# Altium integrated library Microchip Power Management Line Regulator.IntLib: 1169 symbols (part 10 of 31)
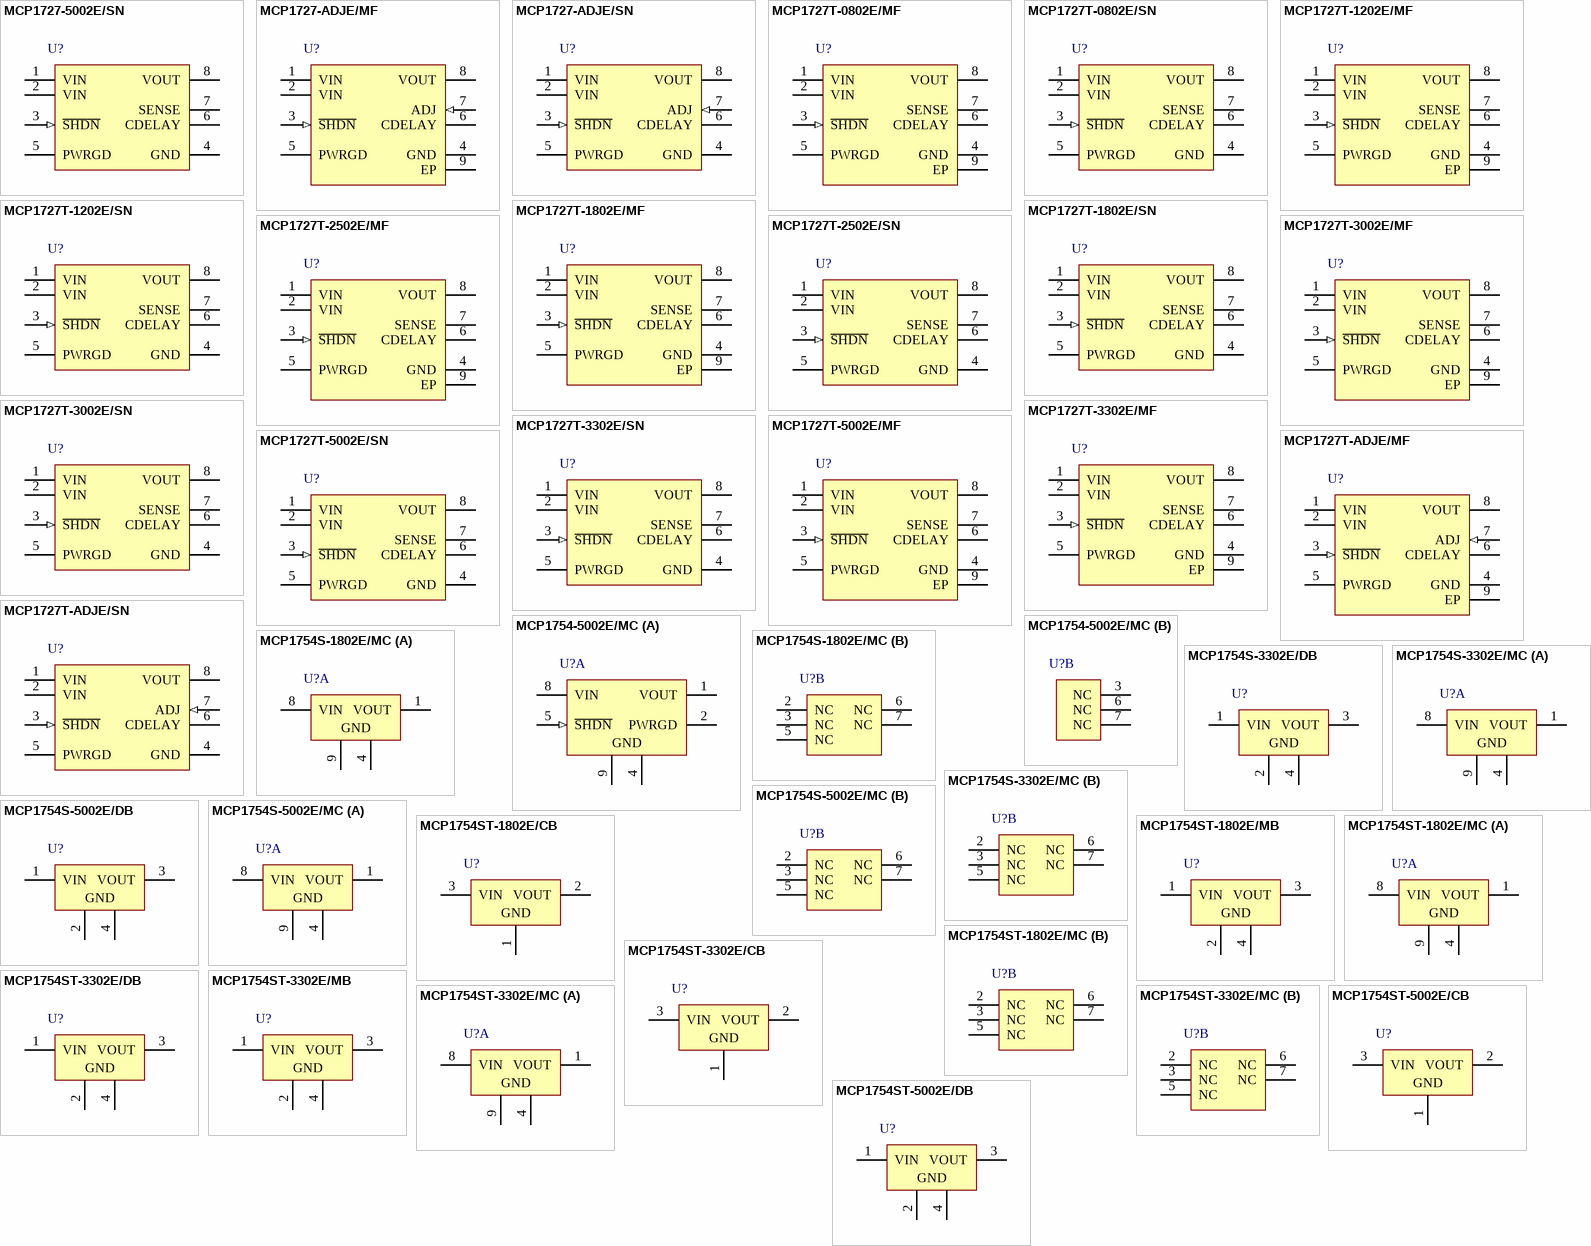
[diagram p38: symbols MCP1727-5002E/SN to MCP1754ST-5002E/DB]

## MCP1754ST-3302E/MB
designator U?
150 mA, 16 V, High Performance LDO, -40 to 125 degC, 3-pin SOT-89 (MB3), Tape and Reel; Manufacturer: Microchip; PartNumber: MCP1754ST-3302E/MB; DatasheetVersion: Rev. A; PackageVersion: C04-029B; PackageReference: SOT-89-MB3; PackageDescription: 3-Lead Plastic Small Outline Transistor Header, 4.5 x 2.45 mm Body, 1.5 mm Pitch; Supplier 1: Digi-Key; Supplier Part Number 1: MCP1754ST-3302E/MBTR-ND; Supplier 2: Digi-Key; Supplier Part Number 2: MCP1754ST-3302E/MBCT-ND; Supplier 3: Digi-Key; Supplier Part Number 3: MCP1754ST-3302E/MBDKR-ND; Supplier 4: Farnell; Supplier Part Number 4: 2065847RL; Supplier 5: Farnell; Supplier Part Number 5: 2065847; Supplier 6: Newark; Supplier Part Number 6: 71T9800; Supplier 7: Newark; Supplier Part Number 7: 64T0548; Supplier 8: Mouser; Supplier Part Number 8: 579-MCP1754ST3302EMB; Mounting Technology: Surface Mount; ComponentLink1Description: Manufacturer URL; ComponentLink1URL: http://www.microchip.com; ComponentLink2Description: Datasheet; ComponentLink2URL: http://ww1.microchip.com/downloads/en/DeviceDoc/22276A.pdf; ComponentLink3Description: Package Specification; ComponentLink3URL: http://www.microchip.com/stellent/groups/techpub_sg/documents/packagingspec/en012702.pdf; ComponentLink4Description: Product URL; ComponentLink4URL: http://www.microchip.com/MCP1754S
footprint MCHP-SOT-89-MB3_N (SOT89, 3-Leads, Body 4.5x2.45mm, Pitch 1.5mm, IPC Medium Density)
footprint MCHP-SOT-89-MB3_L (SOT89, 3-Leads, Body 4.5x2.45mm, Pitch 1.5mm, IPC High Density)
footprint MCHP-SOT-89-MB3_M (SOT89, 3-Leads, Body 4.5x2.45mm, Pitch 1.5mm, IPC Low Density)
pins: 1 VIN (power) "Unregulated Supply Voltage", 2 GND (power) "Ground Terminal", 3 VOUT (power) "Regulated Voltage Output", 4 GND (power) "Exposed Pad, Connected to GND"

## MCP1754ST-3302E/MC
designator U?
150 mA, 16 V, High Performance LDO, -40 to 125 degC, 8-pin DFN (MC8), Tape and Reel; Manufacturer: Microchip; PartNumber: MCP1754ST-3302E/MC; DatasheetVersion: Rev. A; PackageVersion: C04-123C; PackageReference: DFN-MC8; PackageDescription: 8-Lead Plastic Dual Flat, 2 x 3 mm Body, 0.5 mm Pitch; Supplier 1: Digi-Key; Supplier Part Number 1: MCP1754ST-3302E/MC-ND; Supplier 2: Mouser; Supplier Part Number 2: 579-MCP1754ST3302EMC; Mounting Technology: Surface Mount; ComponentLink1Description: Manufacturer URL; ComponentLink1URL: http://www.microchip.com; ComponentLink2Description: Datasheet; ComponentLink2URL: http://ww1.microchip.com/downloads/en/DeviceDoc/22276A.pdf; ComponentLink3Description: Package Specification; ComponentLink3URL: http://www.microchip.com/stellent/groups/techpub_sg/documents/packagingspec/en012702.pdf; ComponentLink4Description: Product URL; ComponentLink4URL: http://www.microchip.com/MCP1754S
footprint MCHP-DFN-MC8_V (SON, 8-Leads, Body 3x2mm, Pitch 0.5mm, Thermal Pad 1.45x1.75mm)
part A pins: 1 VOUT (power) "Regulated Voltage Output", 4 GND (power) "Ground Terminal", 8 VIN (power) "Unregulated Supply Voltage", 9 GND (power) "Exposed Pad, Connected to GND"
part B pins: 2 NC "No Connection", 3 NC "No Connection", 5 NC "No Connection", 6 NC "No Connection", 7 NC "No Connection"

## MCP1754ST-5002E/CB
designator U?
150 mA, 16 V, High Performance LDO, -40 to 125 degC, 3-pin SOT-23A (CB3), Tape and Reel; Manufacturer: Microchip; PartNumber: MCP1754ST-5002E/CB; DatasheetVersion: Rev. A; PackageVersion: C04-130B; PackageReference: SOT-23A-CB3; PackageDescription: 3-Lead Plastic Small Outline Transistor, 2.9 x 1.5 mm Body, 0.95 mm Pitch; Supplier 1: Digi-Key; Supplier Part Number 1: MCP1754ST-5002E/CBTR-ND; Supplier 2: Digi-Key; Supplier Part Number 2: MCP1754ST-5002E/CBCT-ND; Supplier 3: Digi-Key; Supplier Part Number 3: MCP1754ST-5002E/CBDKR-ND; Supplier 4: Farnell; Supplier Part Number 4: 2065849RL; Supplier 5: Farnell; Supplier Part Number 5: 2065849; Supplier 6: Mouser; Supplier Part Number 6: 579-MCP1754T-5002ECB; Mounting Technology: Surface Mount; ComponentLink1Description: Manufacturer URL; ComponentLink1URL: http://www.microchip.com; ComponentLink2Description: Datasheet; ComponentLink2URL: http://ww1.microchip.com/downloads/en/DeviceDoc/22276A.pdf; ComponentLink3Description: Package Specification; ComponentLink3URL: http://www.microchip.com/stellent/groups/techpub_sg/documents/packagingspec/en012702.pdf; ComponentLink4Description: Product URL; ComponentLink4URL: http://www.microchip.com/MCP1754S
footprint MCHP-SOT-23A-CB3_N (SOT23, 3-Leads, Body 2.9x1.5mm, Pitch 0.95mm, IPC Medium Density)
footprint MCHP-SOT-23A-CB3_L (SOT23, 3-Leads, Body 2.9x1.5mm, Pitch 0.95mm, IPC High Density)
footprint MCHP-SOT-23A-CB3_M (SOT23, 3-Leads, Body 2.9x1.5mm, Pitch 0.95mm, IPC Low Density)
pins: 1 GND (power) "Ground Terminal", 2 VOUT (power) "Regulated Output Voltage", 3 VIN (power) "Unregulated Input Voltage"

## MCP1754ST-5002E/DB
designator U?
150 mA, 16 V, High Performance LDO, -40 to 125 degC, 3-pin SOT-223 (DB3), Tape and Reel; Manufacturer: Microchip; PartNumber: MCP1754ST-5002E/DB; DatasheetVersion: Rev. A; PackageVersion: C04-032B; PackageReference: SOT-223-DB3; PackageDescription: 3-Lead Plastic Small Outline Transistor, 6.5 x 3.5 mm Body, 2.3 mm Pitch; Supplier 1: Digi-Key; Supplier Part Number 1: MCP1754ST-5002E/DB-ND; Supplier 2: Newark; Supplier Part Number 2: 58T9716; Supplier 3: Mouser; Supplier Part Number 3: 579-MCP1754T-5002EDB; Mounting Technology: Surface Mount; ComponentLink1Description: Manufacturer URL; ComponentLink1URL: http://www.microchip.com; ComponentLink2Description: Datasheet; ComponentLink2URL: http://ww1.microchip.com/downloads/en/DeviceDoc/22276A.pdf; ComponentLink3Description: Package Specification; ComponentLink3URL: http://www.microchip.com/stellent/groups/techpub_sg/documents/packagingspec/en012702.pdf; ComponentLink4Description: Product URL; ComponentLink4URL: http://www.microchip.com/MCP1754S
footprint MCHP-SOT-223-DB3_N (SOT223, 3-Leads, Body 6.5x3.5mm, Pitch 2.3mm, IPC Medium Density)
footprint MCHP-SOT-223-DB3_L (SOT223, 3-Leads, Body 6.5x3.5mm, Pitch 2.3mm, IPC High Density)
footprint MCHP-SOT-223-DB3_M (SOT223, 3-Leads, Body 6.5x3.5mm, Pitch 2.3mm, IPC Low Density)
pins: 1 VIN (power) "Unregulated Supply Voltage", 2 GND (power) "Ground Terminal", 3 VOUT (power) "Regulated Voltage Output", 4 GND (power) "Exposed Pad, Connected to GND"

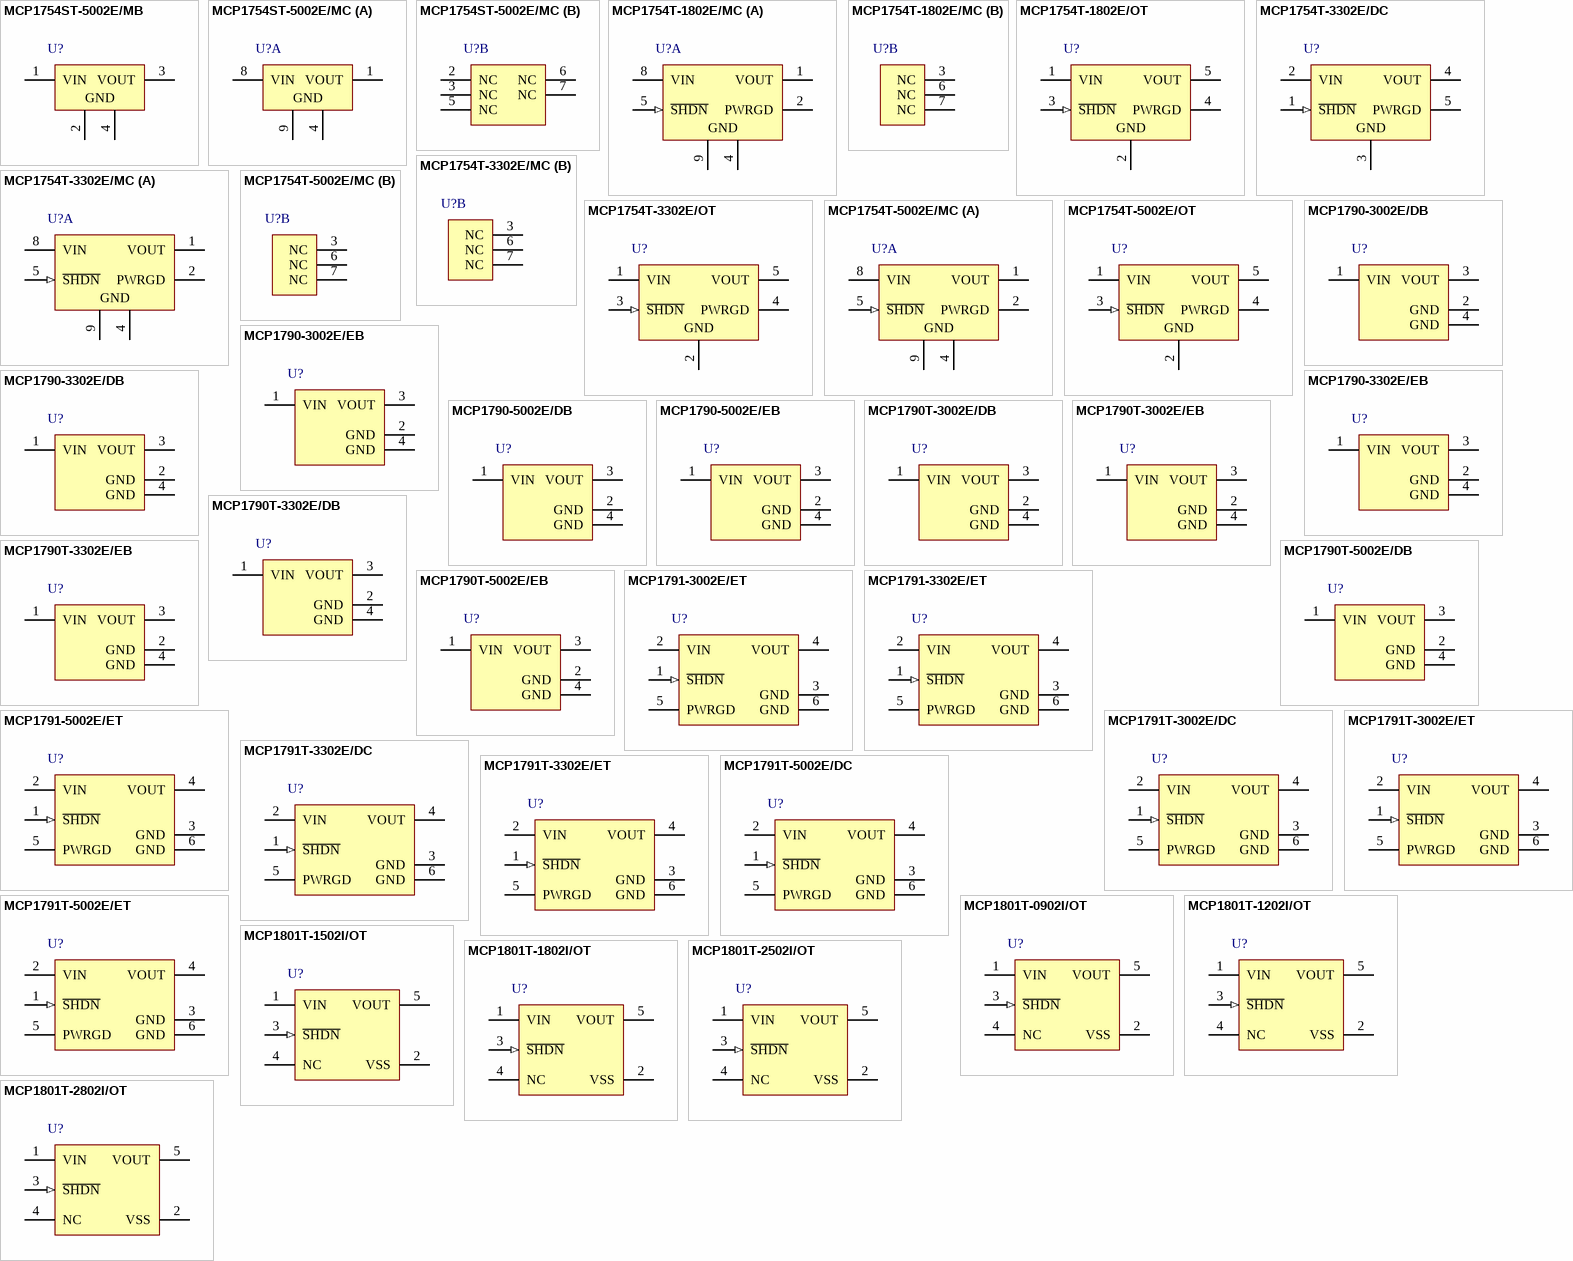
[diagram p9: symbols MCP1754ST-5002E/MB to MCP1801T-2802I/OT]

## MCP1754ST-5002E/MB
designator U?
150 mA, 16 V, High Performance LDO, -40 to 125 degC, 3-pin SOT-89 (MB3), Tape and Reel; Manufacturer: Microchip; PartNumber: MCP1754ST-5002E/MB; DatasheetVersion: Rev. A; PackageVersion: C04-029B; PackageReference: SOT-89-MB3; PackageDescription: 3-Lead Plastic Small Outline Transistor Header, 4.5 x 2.45 mm Body, 1.5 mm Pitch; Supplier 1: Digi-Key; Supplier Part Number 1: MCP1754ST-5002E/MBTR-ND; Supplier 2: Digi-Key; Supplier Part Number 2: MCP1754ST-5002E/MBCT-ND; Supplier 3: Digi-Key; Supplier Part Number 3: MCP1754ST-5002E/MBDKR-ND; Supplier 4: Farnell; Supplier Part Number 4: 2065851; Supplier 5: Farnell; Supplier Part Number 5: 2065851RL; Supplier 6: Mouser; Supplier Part Number 6: 579-MCP1754T-5002EMB; Mounting Technology: Surface Mount; ComponentLink1Description: Manufacturer URL; ComponentLink1URL: http://www.microchip.com; ComponentLink2Description: Datasheet; ComponentLink2URL: http://ww1.microchip.com/downloads/en/DeviceDoc/22276A.pdf; ComponentLink3Description: Package Specification; ComponentLink3URL: http://www.microchip.com/stellent/groups/techpub_sg/documents/packagingspec/en012702.pdf; ComponentLink4Description: Product URL; ComponentLink4URL: http://www.microchip.com/MCP1754S
footprint MCHP-SOT-89-MB3_N (SOT89, 3-Leads, Body 4.5x2.45mm, Pitch 1.5mm, IPC Medium Density)
footprint MCHP-SOT-89-MB3_L (SOT89, 3-Leads, Body 4.5x2.45mm, Pitch 1.5mm, IPC High Density)
footprint MCHP-SOT-89-MB3_M (SOT89, 3-Leads, Body 4.5x2.45mm, Pitch 1.5mm, IPC Low Density)
pins: 1 VIN (power) "Unregulated Supply Voltage", 2 GND (power) "Ground Terminal", 3 VOUT (power) "Regulated Voltage Output", 4 GND (power) "Exposed Pad, Connected to GND"

## MCP1754ST-5002E/MC
designator U?
150 mA, 16 V, High Performance LDO, -40 to 125 degC, 8-pin DFN (MC8), Tape and Reel; Manufacturer: Microchip; PartNumber: MCP1754ST-5002E/MC; DatasheetVersion: Rev. A; PackageVersion: C04-123C; PackageReference: DFN-MC8; PackageDescription: 8-Lead Plastic Dual Flat, 2 x 3 mm Body, 0.5 mm Pitch; Supplier 1: Digi-Key; Supplier Part Number 1: MCP1754ST-5002E/MC-ND; Supplier 2: Newark; Supplier Part Number 2: 58T9718; Supplier 3: Mouser; Supplier Part Number 3: 579-MCP1754ST5002EMC; Mounting Technology: Surface Mount; ComponentLink1Description: Manufacturer URL; ComponentLink1URL: http://www.microchip.com; ComponentLink2Description: Datasheet; ComponentLink2URL: http://ww1.microchip.com/downloads/en/DeviceDoc/22276A.pdf; ComponentLink3Description: Package Specification; ComponentLink3URL: http://www.microchip.com/stellent/groups/techpub_sg/documents/packagingspec/en012702.pdf; ComponentLink4Description: Product URL; ComponentLink4URL: http://www.microchip.com/MCP1754S
footprint MCHP-DFN-MC8_V (SON, 8-Leads, Body 3x2mm, Pitch 0.5mm, Thermal Pad 1.45x1.75mm)
part A pins: 1 VOUT (power) "Regulated Voltage Output", 4 GND (power) "Ground Terminal", 8 VIN (power) "Unregulated Supply Voltage", 9 GND (power) "Exposed Pad, Connected to GND"
part B pins: 2 NC "No Connection", 3 NC "No Connection", 5 NC "No Connection", 6 NC "No Connection", 7 NC "No Connection"

## MCP1754T-1802E/MC
designator U?
150 mA, 16 V, High Performance LDO, -40 to 125 degC, 8-pin DFN (MC8), Tape and Reel; Manufacturer: Microchip; PartNumber: MCP1754T-1802E/MC; DatasheetVersion: Rev. A; PackageVersion: C04-123C; PackageReference: DFN-MC8; PackageDescription: 8-Lead Plastic Dual Flat, 2 x 3 mm Body, 0.5 mm Pitch; Supplier 1: Digi-Key; Supplier Part Number 1: MCP1754T-1802E/MC-ND; Supplier 2: Newark; Supplier Part Number 2: 58T9719; Supplier 3: Mouser; Supplier Part Number 3: 579-MCP1754T-1802EMC; Mounting Technology: Surface Mount; ComponentLink1Description: Manufacturer URL; ComponentLink1URL: http://www.microchip.com; ComponentLink2Description: Datasheet; ComponentLink2URL: http://ww1.microchip.com/downloads/en/DeviceDoc/22276A.pdf; ComponentLink3Description: Package Specification; ComponentLink3URL: http://www.microchip.com/stellent/groups/techpub_sg/documents/packagingspec/en012702.pdf; ComponentLink4Description: Product URL; ComponentLink4URL: http://www.microchip.com/MCP1754
footprint MCHP-DFN-MC8_V (SON, 8-Leads, Body 3x2mm, Pitch 0.5mm, Thermal Pad 1.45x1.75mm)
part A pins: 1 VOUT (power) "Regulated Voltage Output", 2 PWRGD (oc) "Open Drain Power Good Output", 4 GND (power) "Ground Terminal", 5 ~{SHDN} (in) "Shutdown Input", 8 VIN (power) "Unregulated Supply Voltage", 9 GND (power) "Exposed Pad, Connected to GND"
part B pins: 3 NC "No Connection", 6 NC "No Connection", 7 NC "No Connection"

## MCP1754T-1802E/OT
designator U?
150 mA, 16 V, High Performance LDO, -40 to 125 degC, 5-pin SOT-23 (OT5), Tape and Reel; Manufacturer: Microchip; PartNumber: MCP1754T-1802E/OT; DatasheetVersion: Rev. A; PackageVersion: C04-091B; PackageReference: SOT-23-OT5; PackageDescription: 5-Lead Plastic Small Outline Transistor, 2.9 x 1.55 mm Body, 0.95 mm Pitch; Supplier 1: Digi-Key; Supplier Part Number 1: MCP1754T-1802E/OT-ND; Supplier 2: Mouser; Supplier Part Number 2: 579-MCP1754T1802EOT; Mounting Technology: Surface Mount; ComponentLink1Description: Manufacturer URL; ComponentLink1URL: http://www.microchip.com; ComponentLink2Description: Datasheet; ComponentLink2URL: http://ww1.microchip.com/downloads/en/DeviceDoc/22276A.pdf; ComponentLink3Description: Package Specification; ComponentLink3URL: http://www.microchip.com/stellent/groups/techpub_sg/documents/packagingspec/en012702.pdf; ComponentLink4Description: Product URL; ComponentLink4URL: http://www.microchip.com/MCP1754
footprint MCHP-SOT-23-OT5_N (SOT23, 5-Leads, Body 2.9x1.55mm, Pitch 0.95mm, IPC Medium Density)
footprint MCHP-SOT-23-OT5_L (SOT23, 5-Leads, Body 2.9x1.55mm, Pitch 0.95mm, IPC High Density)
footprint MCHP-SOT-23-OT5_M (SOT23, 5-Leads, Body 2.9x1.55mm, Pitch 0.95mm, IPC Low Density)
pins: 1 VIN (power) "Unregulated Supply Voltage", 2 GND (power) "Ground Terminal", 3 ~{SHDN} (in) "Shutdown Input", 4 PWRGD (oc) "Open Drain Power Good Output", 5 VOUT (power) "Regulated Voltage Output"

## MCP1754T-3302E/DC
designator U?
150 mA, 16 V, High Performance LDO, -40 to 125 degC, 5-pin SOT-223 (DC5), Tape and Reel; Manufacturer: Microchip; PartNumber: MCP1754T-3302E/DC; DatasheetVersion: Rev. A; PackageVersion: C04-137B; PackageReference: SOT-223-DC5; PackageDescription: 5-Lead Plastic Small Outline Transistor, 3.5 x 6.5 mm Body, 1.27 mm Pitch; Supplier 1: Digi-Key; Supplier Part Number 1: MCP1754T-3302E/DC-ND; Supplier 2: Newark; Supplier Part Number 2: 66T8752; Supplier 3: Mouser; Supplier Part Number 3: 579-MCP1754T3302EDC; Mounting Technology: Surface Mount; ComponentLink1Description: Manufacturer URL; ComponentLink1URL: http://www.microchip.com; ComponentLink2Description: Datasheet; ComponentLink2URL: http://ww1.microchip.com/downloads/en/DeviceDoc/22276A.pdf; ComponentLink3Description: Package Specification; ComponentLink3URL: http://www.microchip.com/stellent/groups/techpub_sg/documents/packagingspec/en012702.pdf; ComponentLink4Description: Product URL; ComponentLink4URL: http://www.microchip.com/MCP1754
footprint MCHP-SOT-223-DC5_N (SOT-223, 5-Leads, Body 6.5x3.5mm, Pitch 1.27mm, IPC Medium Density)
footprint MCHP-SOT-223-DC5_L (SOT-223, 5-Leads, Body 6.5x3.5mm, Pitch 1.27mm, IPC High Density)
footprint MCHP-SOT-223-DC5_M (SOT-223, 5-Leads, Body 6.5x3.5mm, Pitch 1.27mm, IPC Low Density)
pins: 1 ~{SHDN} (in) "Shutdown Input", 2 VIN (power) "Unregulated Supply Voltage", 3 GND (power) "Ground Terminal", 4 VOUT (power) "Regulated Voltage Output", 5 PWRGD (oc) "Open Drain Power Good Output"

## MCP1754T-3302E/MC
designator U?
150 mA, 16 V, High Performance LDO, -40 to 125 degC, 8-pin DFN (MC8), Tape and Reel; Manufacturer: Microchip; PartNumber: MCP1754T-3302E/MC; DatasheetVersion: Rev. A; PackageVersion: C04-123C; PackageReference: DFN-MC8; PackageDescription: 8-Lead Plastic Dual Flat, 2 x 3 mm Body, 0.5 mm Pitch; Supplier 1: Digi-Key; Supplier Part Number 1: MCP1754T-3302E/MC-ND; Supplier 2: Mouser; Supplier Part Number 2: 579-MCP1754T3302E/MC; Mounting Technology: Surface Mount; ComponentLink1Description: Manufacturer URL; ComponentLink1URL: http://www.microchip.com; ComponentLink2Description: Datasheet; ComponentLink2URL: http://ww1.microchip.com/downloads/en/DeviceDoc/22276A.pdf; ComponentLink3Description: Package Specification; ComponentLink3URL: http://www.microchip.com/stellent/groups/techpub_sg/documents/packagingspec/en012702.pdf; ComponentLink4Description: Product URL; ComponentLink4URL: http://www.microchip.com/MCP1754
footprint MCHP-DFN-MC8_V (SON, 8-Leads, Body 3x2mm, Pitch 0.5mm, Thermal Pad 1.45x1.75mm)
part A pins: 1 VOUT (power) "Regulated Voltage Output", 2 PWRGD (oc) "Open Drain Power Good Output", 4 GND (power) "Ground Terminal", 5 ~{SHDN} (in) "Shutdown Input", 8 VIN (power) "Unregulated Supply Voltage", 9 GND (power) "Exposed Pad, Connected to GND"
part B pins: 3 NC "No Connection", 6 NC "No Connection", 7 NC "No Connection"

## MCP1754T-3302E/OT
designator U?
150 mA, 16 V, High Performance LDO, -40 to 125 degC, 5-pin SOT-23 (OT5), Tape and Reel; Manufacturer: Microchip; PartNumber: MCP1754T-3302E/OT; DatasheetVersion: Rev. A; PackageVersion: C04-091B; PackageReference: SOT-23-OT5; PackageDescription: 5-Lead Plastic Small Outline Transistor, 2.9 x 1.55 mm Body, 0.95 mm Pitch; Supplier 1: Digi-Key; Supplier Part Number 1: MCP1754T-3302E/OT-ND; Supplier 2: Newark; Supplier Part Number 2: 66T8753; Supplier 3: Mouser; Supplier Part Number 3: 579-MCP1754T3302EOT; Mounting Technology: Surface Mount; ComponentLink1Description: Manufacturer URL; ComponentLink1URL: http://www.microchip.com; ComponentLink2Description: Datasheet; ComponentLink2URL: http://ww1.microchip.com/downloads/en/DeviceDoc/22276A.pdf; ComponentLink3Description: Package Specification; ComponentLink3URL: http://www.microchip.com/stellent/groups/techpub_sg/documents/packagingspec/en012702.pdf; ComponentLink4Description: Product URL; ComponentLink4URL: http://www.microchip.com/MCP1754
footprint MCHP-SOT-23-OT5_N (SOT23, 5-Leads, Body 2.9x1.55mm, Pitch 0.95mm, IPC Medium Density)
footprint MCHP-SOT-23-OT5_L (SOT23, 5-Leads, Body 2.9x1.55mm, Pitch 0.95mm, IPC High Density)
footprint MCHP-SOT-23-OT5_M (SOT23, 5-Leads, Body 2.9x1.55mm, Pitch 0.95mm, IPC Low Density)
pins: 1 VIN (power) "Unregulated Supply Voltage", 2 GND (power) "Ground Terminal", 3 ~{SHDN} (in) "Shutdown Input", 4 PWRGD (oc) "Open Drain Power Good Output", 5 VOUT (power) "Regulated Voltage Output"

## MCP1754T-5002E/MC
designator U?
150 mA, 16 V, High Performance LDO, -40 to 125 degC, 8-pin DFN (MC8), Tape and Reel; Manufacturer: Microchip; PartNumber: MCP1754T-5002E/MC; DatasheetVersion: Rev. A; PackageVersion: C04-123C; PackageReference: DFN-MC8; PackageDescription: 8-Lead Plastic Dual Flat, 2 x 3 mm Body, 0.5 mm Pitch; Supplier 1: Digi-Key; Supplier Part Number 1: MCP1754T-5002E/MC-ND; Supplier 2: Newark; Supplier Part Number 2: 58T9720; Supplier 3: Mouser; Supplier Part Number 3: 579-MCP1754T-5002EMC; Mounting Technology: Surface Mount; ComponentLink1Description: Manufacturer URL; ComponentLink1URL: http://www.microchip.com; ComponentLink2Description: Datasheet; ComponentLink2URL: http://ww1.microchip.com/downloads/en/DeviceDoc/22276A.pdf; ComponentLink3Description: Package Specification; ComponentLink3URL: http://www.microchip.com/stellent/groups/techpub_sg/documents/packagingspec/en012702.pdf; ComponentLink4Description: Product URL; ComponentLink4URL: http://www.microchip.com/MCP1754
footprint MCHP-DFN-MC8_V (SON, 8-Leads, Body 3x2mm, Pitch 0.5mm, Thermal Pad 1.45x1.75mm)
part A pins: 1 VOUT (power) "Regulated Voltage Output", 2 PWRGD (oc) "Open Drain Power Good Output", 4 GND (power) "Ground Terminal", 5 ~{SHDN} (in) "Shutdown Input", 8 VIN (power) "Unregulated Supply Voltage", 9 GND (power) "Exposed Pad, Connected to GND"
part B pins: 3 NC "No Connection", 6 NC "No Connection", 7 NC "No Connection"

## MCP1754T-5002E/OT
designator U?
150 mA, 16 V, High Performance LDO, -40 to 125 degC, 5-pin SOT-23 (OT5), Tape and Reel; Manufacturer: Microchip; PartNumber: MCP1754T-5002E/OT; DatasheetVersion: Rev. A; PackageVersion: C04-091B; PackageReference: SOT-23-OT5; PackageDescription: 5-Lead Plastic Small Outline Transistor, 2.9 x 1.55 mm Body, 0.95 mm Pitch; Supplier 1: Digi-Key; Supplier Part Number 1: MCP1754T-5002E/OT-ND; Supplier 2: Newark; Supplier Part Number 2: 66T8754; Supplier 3: Mouser; Supplier Part Number 3: 579-MCP1754T5002EOT; Mounting Technology: Surface Mount; ComponentLink1Description: Manufacturer URL; ComponentLink1URL: http://www.microchip.com; ComponentLink2Description: Datasheet; ComponentLink2URL: http://ww1.microchip.com/downloads/en/DeviceDoc/22276A.pdf; ComponentLink3Description: Package Specification; ComponentLink3URL: http://www.microchip.com/stellent/groups/techpub_sg/documents/packagingspec/en012702.pdf; ComponentLink4Description: Product URL; ComponentLink4URL: http://www.microchip.com/MCP1754
footprint MCHP-SOT-23-OT5_N (SOT23, 5-Leads, Body 2.9x1.55mm, Pitch 0.95mm, IPC Medium Density)
footprint MCHP-SOT-23-OT5_L (SOT23, 5-Leads, Body 2.9x1.55mm, Pitch 0.95mm, IPC High Density)
footprint MCHP-SOT-23-OT5_M (SOT23, 5-Leads, Body 2.9x1.55mm, Pitch 0.95mm, IPC Low Density)
pins: 1 VIN (power) "Unregulated Supply Voltage", 2 GND (power) "Ground Terminal", 3 ~{SHDN} (in) "Shutdown Input", 4 PWRGD (oc) "Open Drain Power Good Output", 5 VOUT (power) "Regulated Voltage Output"

## MCP1790-3002E/DB
designator U?
70 mA, High Voltage Regulator, 3-Pin SOT-223, Extended Temperature; Manufacturer: Microchip; PartNumber: MCP1790-3002E/DB; DatasheetVersion: revA, Mar-2008; PackageVersion: revBB, Aug-2009; PackageReference: SOT-223-DB3; PackageDescription: 3-Lead Plastic Small Outline Transistor (DB) [SOT-223]; Supplier 1: Digi-Key; Supplier Part Number 1: MCP1790-3002E/DB-ND; Supplier 2: Newark; Supplier Part Number 2: 40M0643; Supplier 3: Mouser; Supplier Part Number 3: 579-MCP1790-3002E/DB; Mounting Technology: Surface Mount; ComponentLink1Description: Manufacturer URL; ComponentLink1URL: http://www.microchip.com/; ComponentLink2Description: Datasheet; ComponentLink2URL: http://ww1.microchip.com/downloads/en/DeviceDoc/22075a.pdf; ComponentLink3Description: Package Specification; ComponentLink3URL: http://www.microchip.com/stellent/groups/techpub_sg/documents/packagingspec/en012702.pdf
footprint SOT-223-DB3_N (SOT223, 4-Leads, Body 6.5x3.5mm, Pitch 2.3mm, Lead Span 7mm, IPC Medium Density)
footprint SOT-223-DB3_L (SOT223, 4-Leads, Body 6.5x3.5mm, Pitch 2.3mm, Lead Span 7mm, IPC High Density)
footprint SOT-223-DB3_M (SOT223, 4-Leads, Body 6.5x3.5mm, Pitch 2.3mm, Lead Span 7mm, IPC Low Density)
pins: 1 VIN (power), 2 GND (power), 3 VOUT (power), 4 GND (power)

## MCP1790-3002E/EB
designator U?
70 mA, High Voltage Regulator, 3-Pin DDPAK, Extended Temperature; Manufacturer: Microchip; PartNumber: MCP1790-3002E/EB; DatasheetVersion: revA, Mar-2008; PackageVersion: revBB, Aug-2009; PackageReference: DDPAK-EB3; PackageDescription: 3-Lead Plastic (EB) [DDPAK]; Supplier 1: Digi-Key; Supplier Part Number 1: MCP1790-3002E/EB-ND; Supplier 2: Mouser; Supplier Part Number 2: 579-MCP1790-3002E/EB; Mounting Technology: Surface Mount; ComponentLink1Description: Manufacturer URL; ComponentLink1URL: http://www.microchip.com/; ComponentLink2Description: Datasheet; ComponentLink2URL: http://ww1.microchip.com/downloads/en/DeviceDoc/22075a.pdf; ComponentLink3Description: Package Specification; ComponentLink3URL: http://www.microchip.com/stellent/groups/techpub_sg/documents/packagingspec/en012702.pdf
footprint DDPAK-EB3_N (D2-PAK, 4-Leads, Body 9x10.2mm, Pitch 2.54mm, Lead Span 14.9mm, IPC Medium Density)
footprint DDPAK-EB3_L (D2-PAK, 4-Leads, Body 9x10.2mm, Pitch 2.54mm, Lead Span 14.9mm, IPC High Density)
footprint DDPAK-EB3_M (D2-PAK, 4-Leads, Body 9x10.2mm, Pitch 2.54mm, Lead Span 14.9mm, IPC Low Density)
pins: 1 VIN (power), 2 GND (power), 3 VOUT (power), 4 GND (power)

## MCP1790-3302E/DB
designator U?
70 mA, High Voltage Regulator, 3-Pin SOT-223, Extended Temperature; Manufacturer: Microchip; PartNumber: MCP1790-3302E/DB; DatasheetVersion: revA, Mar-2008; PackageVersion: revBB, Aug-2009; PackageReference: SOT-223-DB3; PackageDescription: 3-Lead Plastic Small Outline Transistor (DB) [SOT-223]; Supplier 1: Digi-Key; Supplier Part Number 1: MCP1790-3302E/DB-ND; Supplier 2: Farnell; Supplier Part Number 2: 1675422; Supplier 3: Newark; Supplier Part Number 3: 40M0645; Supplier 4: Mouser; Supplier Part Number 4: 579-MCP1790-3302E/DB; Mounting Technology: Surface Mount; ComponentLink1Description: Manufacturer URL; ComponentLink1URL: http://www.microchip.com/; ComponentLink2Description: Datasheet; ComponentLink2URL: http://ww1.microchip.com/downloads/en/DeviceDoc/22075a.pdf; ComponentLink3Description: Package Specification; ComponentLink3URL: http://www.microchip.com/stellent/groups/techpub_sg/documents/packagingspec/en012702.pdf
footprint SOT-223-DB3_N (SOT223, 4-Leads, Body 6.5x3.5mm, Pitch 2.3mm, Lead Span 7mm, IPC Medium Density)
footprint SOT-223-DB3_L (SOT223, 4-Leads, Body 6.5x3.5mm, Pitch 2.3mm, Lead Span 7mm, IPC High Density)
footprint SOT-223-DB3_M (SOT223, 4-Leads, Body 6.5x3.5mm, Pitch 2.3mm, Lead Span 7mm, IPC Low Density)
pins: 1 VIN (power), 2 GND (power), 3 VOUT (power), 4 GND (power)

## MCP1790-3302E/EB
designator U?
70 mA, High Voltage Regulator, 3-Pin DDPAK, Extended Temperature; Manufacturer: Microchip; PartNumber: MCP1790-3302E/EB; DatasheetVersion: revA, Mar-2008; PackageVersion: revBB, Aug-2009; PackageReference: DDPAK-EB3; PackageDescription: 3-Lead Plastic (EB) [DDPAK]; Supplier 1: Digi-Key; Supplier Part Number 1: MCP1790-3302E/EB-ND; Supplier 2: Newark; Supplier Part Number 2: 40M0646; Supplier 3: Mouser; Supplier Part Number 3: 579-MCP1790-3302E/EB; Mounting Technology: Surface Mount; ComponentLink1Description: Manufacturer URL; ComponentLink1URL: http://www.microchip.com/; ComponentLink2Description: Datasheet; ComponentLink2URL: http://ww1.microchip.com/downloads/en/DeviceDoc/22075a.pdf; ComponentLink3Description: Package Specification; ComponentLink3URL: http://www.microchip.com/stellent/groups/techpub_sg/documents/packagingspec/en012702.pdf
footprint DDPAK-EB3_N (D2-PAK, 4-Leads, Body 9x10.2mm, Pitch 2.54mm, Lead Span 14.9mm, IPC Medium Density)
footprint DDPAK-EB3_L (D2-PAK, 4-Leads, Body 9x10.2mm, Pitch 2.54mm, Lead Span 14.9mm, IPC High Density)
footprint DDPAK-EB3_M (D2-PAK, 4-Leads, Body 9x10.2mm, Pitch 2.54mm, Lead Span 14.9mm, IPC Low Density)
pins: 1 VIN (power), 2 GND (power), 3 VOUT (power), 4 GND (power)

## MCP1790-5002E/DB
designator U?
70 mA, High Voltage Regulator, 3-Pin SOT-223, Extended Temperature; Manufacturer: Microchip; PartNumber: MCP1790-5002E/DB; DatasheetVersion: revA, Mar-2008; PackageVersion: revBB, Aug-2009; PackageReference: SOT-223-DB3; PackageDescription: 3-Lead Plastic Small Outline Transistor (DB) [SOT-223]; Supplier 1: Digi-Key; Supplier Part Number 1: MCP1790-5002E/DB-ND; Supplier 2: Farnell; Supplier Part Number 2: 1675423; Supplier 3: Newark; Supplier Part Number 3: 40M0647; Supplier 4: Mouser; Supplier Part Number 4: 579-MCP1790-5002E/DB; Mounting Technology: Surface Mount; ComponentLink1Description: Manufacturer URL; ComponentLink1URL: http://www.microchip.com/; ComponentLink2Description: Datasheet; ComponentLink2URL: http://ww1.microchip.com/downloads/en/DeviceDoc/22075a.pdf; ComponentLink3Description: Package Specification; ComponentLink3URL: http://www.microchip.com/stellent/groups/techpub_sg/documents/packagingspec/en012702.pdf
footprint SOT-223-DB3_N (SOT223, 4-Leads, Body 6.5x3.5mm, Pitch 2.3mm, Lead Span 7mm, IPC Medium Density)
footprint SOT-223-DB3_L (SOT223, 4-Leads, Body 6.5x3.5mm, Pitch 2.3mm, Lead Span 7mm, IPC High Density)
footprint SOT-223-DB3_M (SOT223, 4-Leads, Body 6.5x3.5mm, Pitch 2.3mm, Lead Span 7mm, IPC Low Density)
pins: 1 VIN (power), 2 GND (power), 3 VOUT (power), 4 GND (power)

## MCP1790-5002E/EB
designator U?
70 mA, High Voltage Regulator, 3-Pin DDPAK, Extended Temperature; Manufacturer: Microchip; PartNumber: MCP1790-5002E/EB; DatasheetVersion: revA, Mar-2008; PackageVersion: revBB, Aug-2009; PackageReference: DDPAK-EB3; PackageDescription: 3-Lead Plastic (EB) [DDPAK]; Supplier 1: Digi-Key; Supplier Part Number 1: MCP1790-5002E/EB-ND; Supplier 2: Newark; Supplier Part Number 2: 40M0648; Supplier 3: Mouser; Supplier Part Number 3: 579-MCP1790-5002E/EB; Mounting Technology: Surface Mount; ComponentLink1Description: Manufacturer URL; ComponentLink1URL: http://www.microchip.com/; ComponentLink2Description: Datasheet; ComponentLink2URL: http://ww1.microchip.com/downloads/en/DeviceDoc/22075a.pdf; ComponentLink3Description: Package Specification; ComponentLink3URL: http://www.microchip.com/stellent/groups/techpub_sg/documents/packagingspec/en012702.pdf
footprint DDPAK-EB3_N (D2-PAK, 4-Leads, Body 9x10.2mm, Pitch 2.54mm, Lead Span 14.9mm, IPC Medium Density)
footprint DDPAK-EB3_L (D2-PAK, 4-Leads, Body 9x10.2mm, Pitch 2.54mm, Lead Span 14.9mm, IPC High Density)
footprint DDPAK-EB3_M (D2-PAK, 4-Leads, Body 9x10.2mm, Pitch 2.54mm, Lead Span 14.9mm, IPC Low Density)
pins: 1 VIN (power), 2 GND (power), 3 VOUT (power), 4 GND (power)

## MCP1790T-3002E/DB
designator U?
70 mA, High Voltage Regulator, 3-Pin SOT-223, Extended Temperature, Tape and Reel; Manufacturer: Microchip; PartNumber: MCP1790T-3002E/DB; DatasheetVersion: revA, Mar-2008; PackageVersion: revBB, Aug-2009; PackageReference: SOT-223-DB3; PackageDescription: 3-Lead Plastic Small Outline Transistor (DB) [SOT-223]; Supplier 1: Digi-Key; Supplier Part Number 1: MCP1790T-3002E/DBTR-ND; Supplier 2: Mouser; Supplier Part Number 2: 579-MCP1790T3002EDB; Mounting Technology: Surface Mount; ComponentLink1Description: Manufacturer URL; ComponentLink1URL: http://www.microchip.com/; ComponentLink2Description: Datasheet; ComponentLink2URL: http://ww1.microchip.com/downloads/en/DeviceDoc/22075a.pdf; ComponentLink3Description: Package Specification; ComponentLink3URL: http://www.microchip.com/stellent/groups/techpub_sg/documents/packagingspec/en012702.pdf
footprint SOT-223-DB3_N (SOT223, 4-Leads, Body 6.5x3.5mm, Pitch 2.3mm, Lead Span 7mm, IPC Medium Density)
footprint SOT-223-DB3_L (SOT223, 4-Leads, Body 6.5x3.5mm, Pitch 2.3mm, Lead Span 7mm, IPC High Density)
footprint SOT-223-DB3_M (SOT223, 4-Leads, Body 6.5x3.5mm, Pitch 2.3mm, Lead Span 7mm, IPC Low Density)
pins: 1 VIN (power), 2 GND (power), 3 VOUT (power), 4 GND (power)

## MCP1790T-3002E/EB
designator U?
70 mA, High Voltage Regulator, 3-Pin DDPAK, Extended Temperature, Tape and Reel; Manufacturer: Microchip; PartNumber: MCP1790T-3002E/EB; DatasheetVersion: revA, Mar-2008; PackageVersion: revBB, Aug-2009; PackageReference: DDPAK-EB3; PackageDescription: 3-Lead Plastic (EB) [DDPAK]; Supplier 1: Digi-Key; Supplier Part Number 1: MCP1790T-3002E/EBTR-ND; Supplier 2: Mouser; Supplier Part Number 2: 579-MCP1790T3002EEB; Mounting Technology: Surface Mount; ComponentLink1Description: Manufacturer URL; ComponentLink1URL: http://www.microchip.com/; ComponentLink2Description: Datasheet; ComponentLink2URL: http://ww1.microchip.com/downloads/en/DeviceDoc/22075a.pdf; ComponentLink3Description: Package Specification; ComponentLink3URL: http://www.microchip.com/stellent/groups/techpub_sg/documents/packagingspec/en012702.pdf
footprint DDPAK-EB3_N (D2-PAK, 4-Leads, Body 9x10.2mm, Pitch 2.54mm, Lead Span 14.9mm, IPC Medium Density)
footprint DDPAK-EB3_L (D2-PAK, 4-Leads, Body 9x10.2mm, Pitch 2.54mm, Lead Span 14.9mm, IPC High Density)
footprint DDPAK-EB3_M (D2-PAK, 4-Leads, Body 9x10.2mm, Pitch 2.54mm, Lead Span 14.9mm, IPC Low Density)
pins: 1 VIN (power), 2 GND (power), 3 VOUT (power), 4 GND (power)

## MCP1790T-3302E/DB
designator U?
70 mA, High Voltage Regulator, 3-Pin SOT-223, Extended Temperature, Tape and Reel; Manufacturer: Microchip; PartNumber: MCP1790T-3302E/DB; DatasheetVersion: revA, Mar-2008; PackageVersion: revBB, Aug-2009; PackageReference: SOT-223-DB3; PackageDescription: 3-Lead Plastic Small Outline Transistor (DB) [SOT-223]; Supplier 1: Digi-Key; Supplier Part Number 1: MCP1790T-3302E/DBTR-ND; Supplier 2: Newark; Supplier Part Number 2: 40M0651; Supplier 3: Mouser; Supplier Part Number 3: 579-MCP1790T3302EDB; Mounting Technology: Surface Mount; ComponentLink1Description: Manufacturer URL; ComponentLink1URL: http://www.microchip.com/; ComponentLink2Description: Datasheet; ComponentLink2URL: http://ww1.microchip.com/downloads/en/DeviceDoc/22075a.pdf; ComponentLink3Description: Package Specification; ComponentLink3URL: http://www.microchip.com/stellent/groups/techpub_sg/documents/packagingspec/en012702.pdf
footprint SOT-223-DB3_N (SOT223, 4-Leads, Body 6.5x3.5mm, Pitch 2.3mm, Lead Span 7mm, IPC Medium Density)
footprint SOT-223-DB3_L (SOT223, 4-Leads, Body 6.5x3.5mm, Pitch 2.3mm, Lead Span 7mm, IPC High Density)
footprint SOT-223-DB3_M (SOT223, 4-Leads, Body 6.5x3.5mm, Pitch 2.3mm, Lead Span 7mm, IPC Low Density)
pins: 1 VIN (power), 2 GND (power), 3 VOUT (power), 4 GND (power)

## MCP1790T-3302E/EB
designator U?
70 mA, High Voltage Regulator, 3-Pin DDPAK, Extended Temperature, Tape and Reel; Manufacturer: Microchip; PartNumber: MCP1790T-3302E/EB; DatasheetVersion: revA, Mar-2008; PackageVersion: revBB, Aug-2009; PackageReference: DDPAK-EB3; PackageDescription: 3-Lead Plastic (EB) [DDPAK]; Supplier 1: Digi-Key; Supplier Part Number 1: MCP1790T-3302E/EBTR-ND; Supplier 2: Mouser; Supplier Part Number 2: 579-MCP1790T3302EEB; Mounting Technology: Surface Mount; ComponentLink1Description: Manufacturer URL; ComponentLink1URL: http://www.microchip.com/; ComponentLink2Description: Datasheet; ComponentLink2URL: http://ww1.microchip.com/downloads/en/DeviceDoc/22075a.pdf; ComponentLink3Description: Package Specification; ComponentLink3URL: http://www.microchip.com/stellent/groups/techpub_sg/documents/packagingspec/en012702.pdf
footprint DDPAK-EB3_N (D2-PAK, 4-Leads, Body 9x10.2mm, Pitch 2.54mm, Lead Span 14.9mm, IPC Medium Density)
footprint DDPAK-EB3_L (D2-PAK, 4-Leads, Body 9x10.2mm, Pitch 2.54mm, Lead Span 14.9mm, IPC High Density)
footprint DDPAK-EB3_M (D2-PAK, 4-Leads, Body 9x10.2mm, Pitch 2.54mm, Lead Span 14.9mm, IPC Low Density)
pins: 1 VIN (power), 2 GND (power), 3 VOUT (power), 4 GND (power)

## MCP1790T-5002E/DB
designator U?
70 mA, High Voltage Regulator, 3-Pin SOT-223, Extended Temperature, Tape and Reel; Manufacturer: Microchip; PartNumber: MCP1790T-5002E/DB; DatasheetVersion: revA, Mar-2008; PackageVersion: revBB, Aug-2009; PackageReference: SOT-223-DB3; PackageDescription: 3-Lead Plastic Small Outline Transistor (DB) [SOT-223]; Supplier 1: Digi-Key; Supplier Part Number 1: MCP1790T-5002E/DBTR-ND; Supplier 2: Newark; Supplier Part Number 2: 40M0653; Supplier 3: Mouser; Supplier Part Number 3: 579-MCP1790T5002EDB; Mounting Technology: Surface Mount; ComponentLink1Description: Manufacturer URL; ComponentLink1URL: http://www.microchip.com/; ComponentLink2Description: Datasheet; ComponentLink2URL: http://ww1.microchip.com/downloads/en/DeviceDoc/22075a.pdf; ComponentLink3Description: Package Specification; ComponentLink3URL: http://www.microchip.com/stellent/groups/techpub_sg/documents/packagingspec/en012702.pdf
footprint SOT-223-DB3_N (SOT223, 4-Leads, Body 6.5x3.5mm, Pitch 2.3mm, Lead Span 7mm, IPC Medium Density)
footprint SOT-223-DB3_L (SOT223, 4-Leads, Body 6.5x3.5mm, Pitch 2.3mm, Lead Span 7mm, IPC High Density)
footprint SOT-223-DB3_M (SOT223, 4-Leads, Body 6.5x3.5mm, Pitch 2.3mm, Lead Span 7mm, IPC Low Density)
pins: 1 VIN (power), 2 GND (power), 3 VOUT (power), 4 GND (power)

## MCP1790T-5002E/EB
designator U?
70 mA, High Voltage Regulator, 3-Pin DDPAK, Extended Temperature, Tape and Reel; Manufacturer: Microchip; PartNumber: MCP1790T-5002E/EB; DatasheetVersion: revA, Mar-2008; PackageVersion: revBB, Aug-2009; PackageReference: DDPAK-EB3; PackageDescription: 3-Lead Plastic (EB) [DDPAK]; Supplier 1: Digi-Key; Supplier Part Number 1: MCP1790T-5002E/EBTR-ND; Supplier 2: Mouser; Supplier Part Number 2: 579-MCP1790T5002EEB; Mounting Technology: Surface Mount; ComponentLink1Description: Manufacturer URL; ComponentLink1URL: http://www.microchip.com/; ComponentLink2Description: Datasheet; ComponentLink2URL: http://ww1.microchip.com/downloads/en/DeviceDoc/22075a.pdf; ComponentLink3Description: Package Specification; ComponentLink3URL: http://www.microchip.com/stellent/groups/techpub_sg/documents/packagingspec/en012702.pdf
footprint DDPAK-EB3_N (D2-PAK, 4-Leads, Body 9x10.2mm, Pitch 2.54mm, Lead Span 14.9mm, IPC Medium Density)
footprint DDPAK-EB3_L (D2-PAK, 4-Leads, Body 9x10.2mm, Pitch 2.54mm, Lead Span 14.9mm, IPC High Density)
footprint DDPAK-EB3_M (D2-PAK, 4-Leads, Body 9x10.2mm, Pitch 2.54mm, Lead Span 14.9mm, IPC Low Density)
pins: 1 VIN (power), 2 GND (power), 3 VOUT (power), 4 GND (power)

## MCP1791-3002E/ET
designator U?
70 mA, High Voltage Regulator, 5-Pin DDPAK, Extended Temperature; Manufacturer: Microchip; PartNumber: MCP1791-3002E/ET; DatasheetVersion: revA, Mar-2008; PackageVersion: revBB, Aug-2009; PackageReference: DDPAK-ET5; PackageDescription: 5-Lead Plastic (ET) [DDPAK]; Supplier 1: Digi-Key; Supplier Part Number 1: MCP1791-3002E/ET-ND; Supplier 2: Newark; Supplier Part Number 2: 40M0656; Supplier 3: Mouser; Supplier Part Number 3: 579-MCP1791-3002E/ET; Mounting Technology: Surface Mount; ComponentLink1Description: Manufacturer URL; ComponentLink1URL: http://www.microchip.com/; ComponentLink2Description: Datasheet; ComponentLink2URL: http://ww1.microchip.com/downloads/en/DeviceDoc/22075a.pdf; ComponentLink3Description: Package Specification; ComponentLink3URL: http://www.microchip.com/stellent/groups/techpub_sg/documents/packagingspec/en012702.pdf
footprint DDPAK-ET5_N (D2-PAK, 6-Leads, Body 9x10.2mm, Pitch 1.7mm, Lead Span 14.9mm, IPC Medium Density)
footprint DDPAK-ET5_L (D2-PAK, 6-Leads, Body 9x10.2mm, Pitch 1.7mm, Lead Span 14.9mm, IPC High Density)
footprint DDPAK-ET5_M (D2-PAK, 6-Leads, Body 9x10.2mm, Pitch 1.7mm, Lead Span 14.9mm, IPC Low Density)
pins: 1 ~{SHDN} (in), 2 VIN (power), 3 GND (power), 4 VOUT (power), 5 PWRGD (power), 6 GND (power)

## MCP1791-3302E/ET
designator U?
70 mA, High Voltage Regulator, 5-Pin DDPAK, Extended Temperature; Manufacturer: Microchip; PartNumber: MCP1791-3302E/ET; DatasheetVersion: revA, Mar-2008; PackageVersion: revBB, Aug-2009; PackageReference: DDPAK-ET5; PackageDescription: 5-Lead Plastic (ET) [DDPAK]; Supplier 1: Digi-Key; Supplier Part Number 1: MCP1791-3302E/ET-ND; Supplier 2: Mouser; Supplier Part Number 2: 579-MCP1791-3302E/ET; Mounting Technology: Surface Mount; ComponentLink1Description: Manufacturer URL; ComponentLink1URL: http://www.microchip.com/; ComponentLink2Description: Datasheet; ComponentLink2URL: http://ww1.microchip.com/downloads/en/DeviceDoc/22075a.pdf; ComponentLink3Description: Package Specification; ComponentLink3URL: http://www.microchip.com/stellent/groups/techpub_sg/documents/packagingspec/en012702.pdf
footprint DDPAK-ET5_N (D2-PAK, 6-Leads, Body 9x10.2mm, Pitch 1.7mm, Lead Span 14.9mm, IPC Medium Density)
footprint DDPAK-ET5_L (D2-PAK, 6-Leads, Body 9x10.2mm, Pitch 1.7mm, Lead Span 14.9mm, IPC High Density)
footprint DDPAK-ET5_M (D2-PAK, 6-Leads, Body 9x10.2mm, Pitch 1.7mm, Lead Span 14.9mm, IPC Low Density)
pins: 1 ~{SHDN} (in), 2 VIN (power), 3 GND (power), 4 VOUT (power), 5 PWRGD (power), 6 GND (power)

## MCP1791-5002E/ET
designator U?
70 mA, High Voltage Regulator, 5-Pin DDPAK, Extended Temperature; Manufacturer: Microchip; PartNumber: MCP1791-5002E/ET; DatasheetVersion: revA, Mar-2008; PackageVersion: revBB, Aug-2009; PackageReference: DDPAK-ET5; PackageDescription: 5-Lead Plastic (ET) [DDPAK]; Supplier 1: Digi-Key; Supplier Part Number 1: MCP1791-5002E/ET-ND; Supplier 2: Mouser; Supplier Part Number 2: 579-MCP1791-5002E/ET; Mounting Technology: Surface Mount; ComponentLink1Description: Manufacturer URL; ComponentLink1URL: http://www.microchip.com/; ComponentLink2Description: Datasheet; ComponentLink2URL: http://ww1.microchip.com/downloads/en/DeviceDoc/22075a.pdf; ComponentLink3Description: Package Specification; ComponentLink3URL: http://www.microchip.com/stellent/groups/techpub_sg/documents/packagingspec/en012702.pdf
footprint DDPAK-ET5_N (D2-PAK, 6-Leads, Body 9x10.2mm, Pitch 1.7mm, Lead Span 14.9mm, IPC Medium Density)
footprint DDPAK-ET5_L (D2-PAK, 6-Leads, Body 9x10.2mm, Pitch 1.7mm, Lead Span 14.9mm, IPC High Density)
footprint DDPAK-ET5_M (D2-PAK, 6-Leads, Body 9x10.2mm, Pitch 1.7mm, Lead Span 14.9mm, IPC Low Density)
pins: 1 ~{SHDN} (in), 2 VIN (power), 3 GND (power), 4 VOUT (power), 5 PWRGD (power), 6 GND (power)

## MCP1791T-3002E/DC
designator U?
70 mA, High Voltage Regulator, 5-Pin SOT-223, Extended Temperature, Tape and Reel; Manufacturer: Microchip; PartNumber: MCP1791T-3002E/DC; DatasheetVersion: revA, Mar-2008; PackageVersion: revBB, Aug-2009; PackageReference: SOT-223-DC5; PackageDescription: 5-Lead Plastic Small Outline Transistor (DC) [SOT-223]; Supplier 1: Digi-Key; Supplier Part Number 1: MCP1791T-3002E/DCTR-ND; Supplier 2: Digi-Key; Supplier Part Number 2: MCP1791T-3002E/DCCT-ND; Supplier 3: Digi-Key; Supplier Part Number 3: MCP1791T-3002E/DCDKR-ND; Supplier 4: Newark; Supplier Part Number 4: 40M0661; Supplier 5: Mouser; Supplier Part Number 5: 579-MCP1791T3002EDC; Mounting Technology: Surface Mount; ComponentLink1Description: Manufacturer URL; ComponentLink1URL: http://www.microchip.com/; ComponentLink2Description: Datasheet; ComponentLink2URL: http://ww1.microchip.com/downloads/en/DeviceDoc/22075a.pdf; ComponentLink3Description: Package Specification; ComponentLink3URL: http://www.microchip.com/stellent/groups/techpub_sg/documents/packagingspec/en012702.pdf
footprint SOT-223-DC5_N (SOT223, 6-Leads, Body 6.5x3.5mm, Pitch 1.27mm, Lead Span 7mm, IPC Medium Density)
footprint SOT-223-DC5_L (SOT223, 6-Leads, Body 6.5x3.5mm, Pitch 1.27mm, Lead Span 7mm, IPC High Density)
footprint SOT-223-DC5_M (SOT223, 6-Leads, Body 6.5x3.5mm, Pitch 1.27mm, Lead Span 7mm, IPC Low Density)
pins: 1 ~{SHDN} (in), 2 VIN (power), 3 GND (power), 4 VOUT (power), 5 PWRGD (power), 6 GND (power)

## MCP1791T-3002E/ET
designator U?
70 mA, High Voltage Regulator, 5-Pin DDPAK, Extended Temperature, Tape and Reel; Manufacturer: Microchip; PartNumber: MCP1791T-3002E/ET; DatasheetVersion: revA, Mar-2008; PackageVersion: revBB, Aug-2009; PackageReference: DDPAK-ET5; PackageDescription: 5-Lead Plastic (ET) [DDPAK]; Supplier 1: Digi-Key; Supplier Part Number 1: MCP1791T-3002E/ETTR-ND; Supplier 2: Mouser; Supplier Part Number 2: 579-MCP1791T3002EET; Mounting Technology: Surface Mount; ComponentLink1Description: Manufacturer URL; ComponentLink1URL: http://www.microchip.com/; ComponentLink2Description: Datasheet; ComponentLink2URL: http://ww1.microchip.com/downloads/en/DeviceDoc/22075a.pdf; ComponentLink3Description: Package Specification; ComponentLink3URL: http://www.microchip.com/stellent/groups/techpub_sg/documents/packagingspec/en012702.pdf
footprint DDPAK-ET5_N (D2-PAK, 6-Leads, Body 9x10.2mm, Pitch 1.7mm, Lead Span 14.9mm, IPC Medium Density)
footprint DDPAK-ET5_L (D2-PAK, 6-Leads, Body 9x10.2mm, Pitch 1.7mm, Lead Span 14.9mm, IPC High Density)
footprint DDPAK-ET5_M (D2-PAK, 6-Leads, Body 9x10.2mm, Pitch 1.7mm, Lead Span 14.9mm, IPC Low Density)
pins: 1 ~{SHDN} (in), 2 VIN (power), 3 GND (power), 4 VOUT (power), 5 PWRGD (power), 6 GND (power)

## MCP1791T-3302E/DC
designator U?
70 mA, High Voltage Regulator, 5-Pin SOT-223, Extended Temperature, Tape and Reel; Manufacturer: Microchip; PartNumber: MCP1791T-3302E/DC; DatasheetVersion: revA, Mar-2008; PackageVersion: revBB, Aug-2009; PackageReference: SOT-223-DC5; PackageDescription: 5-Lead Plastic Small Outline Transistor (DC) [SOT-223]; Supplier 1: Digi-Key; Supplier Part Number 1: MCP1791T-3302E/DCTR-ND; Supplier 2: Digi-Key; Supplier Part Number 2: MCP1791T-3302E/DCCT-ND; Supplier 3: Digi-Key; Supplier Part Number 3: MCP1791T-3302E/DCDKR-ND; Supplier 4: Farnell; Supplier Part Number 4: 1675416RL; Supplier 5: Farnell; Supplier Part Number 5: 1675416; Supplier 6: Newark; Supplier Part Number 6: 05N1292; Supplier 7: Mouser; Supplier Part Number 7: 579-MCP1791T3302EDC; Mounting Technology: Surface Mount; ComponentLink1Description: Manufacturer URL; ComponentLink1URL: http://www.microchip.com/; ComponentLink2Description: Datasheet; ComponentLink2URL: http://ww1.microchip.com/downloads/en/DeviceDoc/22075a.pdf; ComponentLink3Description: Package Specification; ComponentLink3URL: http://www.microchip.com/stellent/groups/techpub_sg/documents/packagingspec/en012702.pdf
footprint SOT-223-DC5_N (SOT223, 6-Leads, Body 6.5x3.5mm, Pitch 1.27mm, Lead Span 7mm, IPC Medium Density)
footprint SOT-223-DC5_L (SOT223, 6-Leads, Body 6.5x3.5mm, Pitch 1.27mm, Lead Span 7mm, IPC High Density)
footprint SOT-223-DC5_M (SOT223, 6-Leads, Body 6.5x3.5mm, Pitch 1.27mm, Lead Span 7mm, IPC Low Density)
pins: 1 ~{SHDN} (in), 2 VIN (power), 3 GND (power), 4 VOUT (power), 5 PWRGD (power), 6 GND (power)

## MCP1791T-3302E/ET
designator U?
70 mA, High Voltage Regulator, 5-Pin DDPAK, Extended Temperature, Tape and Reel; Manufacturer: Microchip; PartNumber: MCP1791T-3302E/ET; DatasheetVersion: revA, Mar-2008; PackageVersion: revBB, Aug-2009; PackageReference: DDPAK-ET5; PackageDescription: 5-Lead Plastic (ET) [DDPAK]; Supplier 1: Digi-Key; Supplier Part Number 1: MCP1791T-3302E/ETTR-ND; Supplier 2: Mouser; Supplier Part Number 2: 579-MCP1791T3302EET; Mounting Technology: Surface Mount; ComponentLink1Description: Manufacturer URL; ComponentLink1URL: http://www.microchip.com/; ComponentLink2Description: Datasheet; ComponentLink2URL: http://ww1.microchip.com/downloads/en/DeviceDoc/22075a.pdf; ComponentLink3Description: Package Specification; ComponentLink3URL: http://www.microchip.com/stellent/groups/techpub_sg/documents/packagingspec/en012702.pdf
footprint DDPAK-ET5_N (D2-PAK, 6-Leads, Body 9x10.2mm, Pitch 1.7mm, Lead Span 14.9mm, IPC Medium Density)
footprint DDPAK-ET5_L (D2-PAK, 6-Leads, Body 9x10.2mm, Pitch 1.7mm, Lead Span 14.9mm, IPC High Density)
footprint DDPAK-ET5_M (D2-PAK, 6-Leads, Body 9x10.2mm, Pitch 1.7mm, Lead Span 14.9mm, IPC Low Density)
pins: 1 ~{SHDN} (in), 2 VIN (power), 3 GND (power), 4 VOUT (power), 5 PWRGD (power), 6 GND (power)

## MCP1791T-5002E/DC
designator U?
70 mA, High Voltage Regulator, 5-Pin SOT-223, Extended Temperature, Tape and Reel; Manufacturer: Microchip; PartNumber: MCP1791T-5002E/DC; DatasheetVersion: revA, Mar-2008; PackageVersion: revBB, Aug-2009; PackageReference: SOT-223-DC5; PackageDescription: 5-Lead Plastic Small Outline Transistor (DC) [SOT-223]; Supplier 1: Digi-Key; Supplier Part Number 1: MCP1791T-5002E/DCTR-ND; Supplier 2: Digi-Key; Supplier Part Number 2: MCP1791T-5002E/DCCT-ND; Supplier 3: Digi-Key; Supplier Part Number 3: MCP1791T-5002E/DCDKR-ND; Supplier 4: Farnell; Supplier Part Number 4: 1629344; Supplier 5: Farnell; Supplier Part Number 5: 1629344RL; Supplier 6: Newark; Supplier Part Number 6: 40M0665; Supplier 7: Mouser; Supplier Part Number 7: 579-MCP1791T5002EDC; Mounting Technology: Surface Mount; ComponentLink1Description: Manufacturer URL; ComponentLink1URL: http://www.microchip.com/; ComponentLink2Description: Datasheet; ComponentLink2URL: http://ww1.microchip.com/downloads/en/DeviceDoc/22075a.pdf; ComponentLink3Description: Package Specification; ComponentLink3URL: http://www.microchip.com/stellent/groups/techpub_sg/documents/packagingspec/en012702.pdf
footprint SOT-223-DC5_N (SOT223, 6-Leads, Body 6.5x3.5mm, Pitch 1.27mm, Lead Span 7mm, IPC Medium Density)
footprint SOT-223-DC5_L (SOT223, 6-Leads, Body 6.5x3.5mm, Pitch 1.27mm, Lead Span 7mm, IPC High Density)
footprint SOT-223-DC5_M (SOT223, 6-Leads, Body 6.5x3.5mm, Pitch 1.27mm, Lead Span 7mm, IPC Low Density)
pins: 1 ~{SHDN} (in), 2 VIN (power), 3 GND (power), 4 VOUT (power), 5 PWRGD (power), 6 GND (power)

## MCP1791T-5002E/ET
designator U?
70 mA, High Voltage Regulator, 5-Pin DDPAK, Extended Temperature, Tape and Reel; Manufacturer: Microchip; PartNumber: MCP1791T-5002E/ET; DatasheetVersion: revA, Mar-2008; PackageVersion: revBB, Aug-2009; PackageReference: DDPAK-ET5; PackageDescription: 5-Lead Plastic (ET) [DDPAK]; Supplier 1: Digi-Key; Supplier Part Number 1: MCP1791T-5002E/ETTR-ND; Supplier 2: Mouser; Supplier Part Number 2: 579-MCP1791T5002EET; Mounting Technology: Surface Mount; ComponentLink1Description: Manufacturer URL; ComponentLink1URL: http://www.microchip.com/; ComponentLink2Description: Datasheet; ComponentLink2URL: http://ww1.microchip.com/downloads/en/DeviceDoc/22075a.pdf; ComponentLink3Description: Package Specification; ComponentLink3URL: http://www.microchip.com/stellent/groups/techpub_sg/documents/packagingspec/en012702.pdf
footprint DDPAK-ET5_N (D2-PAK, 6-Leads, Body 9x10.2mm, Pitch 1.7mm, Lead Span 14.9mm, IPC Medium Density)
footprint DDPAK-ET5_L (D2-PAK, 6-Leads, Body 9x10.2mm, Pitch 1.7mm, Lead Span 14.9mm, IPC High Density)
footprint DDPAK-ET5_M (D2-PAK, 6-Leads, Body 9x10.2mm, Pitch 1.7mm, Lead Span 14.9mm, IPC Low Density)
pins: 1 ~{SHDN} (in), 2 VIN (power), 3 GND (power), 4 VOUT (power), 5 PWRGD (power), 6 GND (power)

## MCP1801T-0902I/OT
designator U?
150 mA, High PSRR, Low Quiescent Current LDO, 5-Pin SOT-23, Industrial Temperature, Tape and Reel; Manufacturer: Microchip; PartNumber: MCP1801T-0902I/OT; DatasheetVersion: revC, Jan-2009; PackageVersion: revBB, Aug-2009; PackageReference: SOT-23-OT5; PackageDescription: 5-Lead Plastic Small Outline Transistor (OT) [SOT-23]; Supplier 1: Digi-Key; Supplier Part Number 1: MCP1801T-0902I/OT-ND; Supplier 2: Mouser; Supplier Part Number 2: 579-MCP1801T-0902IOT; Mounting Technology: Surface Mount; Code_IPC: SOT23-5; ComponentLink1Description: Manufacturer URL; ComponentLink1URL: http://www.microchip.com/; ComponentLink2Description: Datasheet; ComponentLink2URL: http://ww1.microchip.com/downloads/en/DeviceDoc/22051c.pdf; ComponentLink3Description: Package Specification; ComponentLink3URL: http://www.microchip.com/stellent/groups/techpub_sg/documents/packagingspec/en012702.pdf
footprint SOT-23-OT5_N (SOT23, 5-Leads, Body 2.9x1.6mm, Pitch 0.95mm, Lead Span 2.7mm, IPC Medium Density)
footprint SOT-23-OT5_L (SOT23, 5-Leads, Body 2.9x1.6mm, Pitch 0.95mm, Lead Span 2.7mm, IPC High Density)
footprint SOT-23-OT5_M (SOT23, 5-Leads, Body 2.9x1.6mm, Pitch 0.95mm, Lead Span 2.7mm, IPC Low Density)
pins: 1 VIN (power), 2 VSS (power), 3 ~{SHDN} (in), 4 NC, 5 VOUT (power)